# EAGLE library part BAS70XY (library nxp_60_1_1)
General-purpose Schottky diodes General-purpose Schottky diodes in small Surface-Mounted Device (SMD) plastic packages. AAL Eindhoven MK
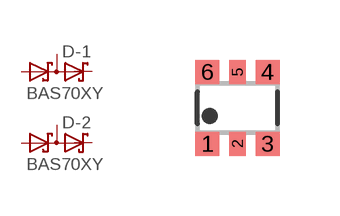
[diagram p78: symbol with the pads of SOT363; footprint SOT363]

Designator prefix D; gates -1=DIODE_SDD_AKAK -2=DIODE_SDD_AKAK

## BAS70XY  [SOT363]
1  -1:A1  pas
2  -1:K2  pas
3  -2:K1A2  pas
4  -2:A1  pas
5  -2:K2  pas
6  -1:K1A2  pas

## Footprint SOT363 (pad centres in mm)
SOT363 Plastic surface-mounted package; 6 leads JEDEC: -- IEC: -- JEITA: SC-88
smd 0.6 x 0.6: 1 -0.75,-0.9; 3 0.75,-0.9; 4 0.75,0.9; 6 -0.75,0.9
smd 0.4 x 0.6: 2 0,-0.9; 5 0,0.9